# EAGLE library part TQ2SSA-L (library Panasonic Relay)
TQ SMD - 2 Form C - 1 coil latching Data sheet <https://www.panasonic-electric-works.com/eu/download.htm?id=55832> Parameters Max. switching voltage: 110V DC, 125V AC Max. switching current: 1A Operational function: single side stable, 1 coil latching, 2 coil latching Contact arrangement: 2 CO Applications Communications Measurement equipment OA equipment Industrial machines Options Also available as single side stable and 2 coil latching version.
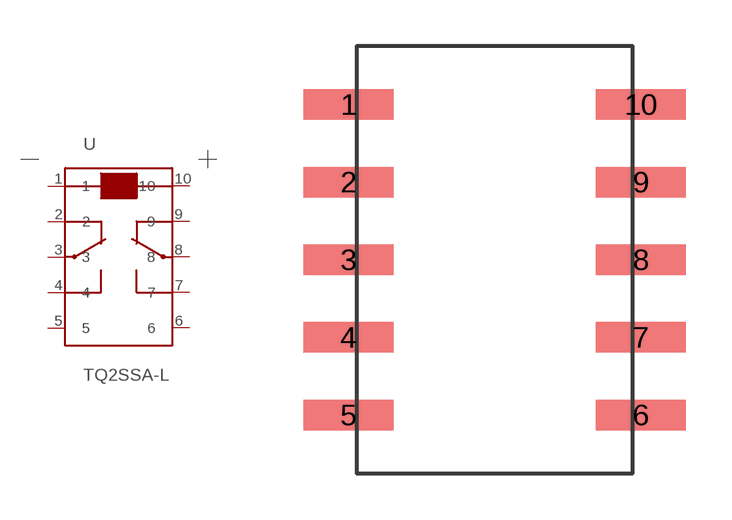
[diagram p53: symbol with the pads of TQ_SSS/1CLT/2CLT_SMD_SA/SL; footprint TQ_SSS/1CLT/2CLT_SMD_SA/SL]

Designator prefix -

## TQ2SSA-L-1.5V (U_COIL: 1.5V DC), TQ2SSA-L-12V (U_COIL: 12V DC), TQ2SSA-L-24V (U_COIL: 24V DC), TQ2SSA-L-3V (U_COIL: 3V DC), TQ2SSA-L-4.5V (U_COIL: 4.5V DC), TQ2SSA-L-5V (U_COIL: 5V DC), TQ2SSA-L-6V (U_COIL: 6V DC), TQ2SSA-L-9V (U_COIL: 9V DC)  [TQ_SSS/1CLT/2CLT_SMD_SA/SL]
1  1
2  2
3  3
4  4
5  5
6  6
7  7
8  8
9  9
10  10

## Footprint TQ_SSS/1CLT/2CLT_SMD_SA/SL (pad centres in mm)
smd 2.94 x 1: 1 -4.78,5.08; 2 -4.78,2.54; 3 -4.78,0; 4 -4.78,-2.54; 5 -4.78,-5.08; 6 4.78,-5.08; 7 4.78,-2.54; 8 4.78,0; 9 4.78,2.54; 10 4.78,5.08